# EAGLE library part SD-CONNECTOR (library con-sd-attend)
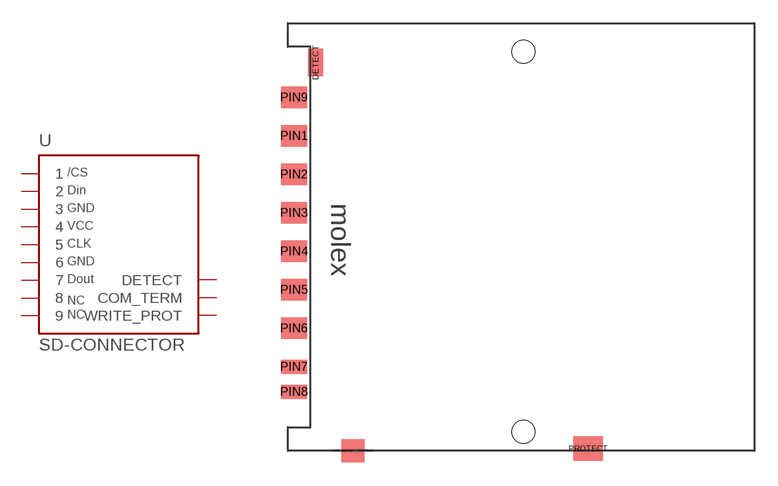
[diagram p0: symbol with the pads of MOLEX_67993; footprint MOLEX_67993]

Designator prefix -

## SD-CONNECTOR  [MOLEX_67993]
COM_DETECT_PROTECT  COM_TERM  in
DETECT  DETECT  in
PIN1  1  in
PIN2  2  in
PIN3  3  in
PIN4  4  in
PIN5  5  in
PIN6  6  in
PIN7  7  in
PIN8  8  in
PIN9  9  in
PROTECT  WRITE_PROT  in

## Footprint MOLEX_67993 (pad centres in mm)
Molex SD Connector Normal Type & Cover Dip http://www.molex.com/pdm_docs/sd/679938001_sd.pdf
smd 1.5 x 1.5: COM_DETECT_PROTECT -11.07,-13.6
smd 1 x 1.8: DETECT -13.5,11.65
smd 1.7 x 1.4: PIN1 -14.9,6.875; PIN2 -14.9,4.375; PIN3 -14.9,1.875; PIN4 -14.9,-0.625; PIN5 -14.9,-3.125; PIN6 -14.9,-5.625; PIN9 -14.9,9.375
smd 1.7 x 0.9: PIN7 -14.9,-8.125; PIN8 -14.9,-9.75
smd 1.9 x 1.6: PROTECT 4.2,-13.45
hole 1.5 at 0,12.35
hole 1.5 at 0,-12.35